# Altium schematic symbol library PCA9685PW_112.SCHLIB: 1 symbol
Pins are listed as number, name and electrical type; pins without a type are passive.

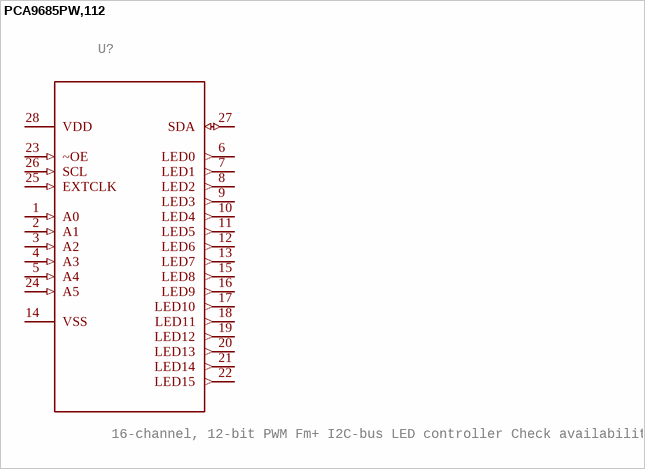
[diagram p0: symbol PCA9685PW,112]

## PCA9685PW,112
designator U?, comment 16-channel, 12-bit PWM Fm+ I2C-bus LED controller Check availability
GateName_1: A; SymbolName_1: PCA9685PW,112; MF: NXP USA; Description: LED Driver IC 16 Output Linear - PWM Dimming 25mA 28-TSSOP; LibraryName: PCA9685PW_112; DeviceSetName: PCA9685PW,112; Package: SOP65P640X110-28N; Package: TSSOP-28 NXP Semiconductors; Price: None; Check_prices: https://www.snapeda.com/parts/PCA9685PW,112/NXP+USA+Inc./view-part/?ref=eda; SnapEDA_Link: https://www.snapeda.com/parts/PCA9685PW,112/NXP+USA+Inc./view-part/?ref=snap; MP: PCA9685PW,112; Availability: In Stock; Purchase-URL: https://pricing.snapeda.com/search?q=PCA9685PW,112&ref=eda
footprint SOP65P640X110-28N
pins: 1 A0 (in), 2 A1 (in), 3 A2 (in), 4 A3 (in), 5 A4 (in), 6 LED0 (out), 7 LED1 (out), 8 LED2 (out), 9 LED3 (out), 10 LED4 (out), 11 LED5 (out), 12 LED6 (out), 13 LED7 (out), 14 VSS, 15 LED8 (out), 16 LED9 (out), 17 LED10 (out), 18 LED11 (out), 19 LED12 (out), 20 LED13 (out), 21 LED14 (out), 22 LED15 (out), 23 ~OE (in), 24 A5 (in), 25 EXTCLK (in), 26 SCL (in), 27 SDA (io), 28 VDD (power)